# Altium footprint library TagConnect.PcbLib: 1 footprints
Each footprint in its own frame and in the unit in brackets; x right, y up, seen from the top. Pads: shape width x height; smd on the part's side, far side on the other; paste and mask are expansions set on the pad; w line width, h text height; cw(c..) or ccw(c..) is an arc to the next point about the centre after c.
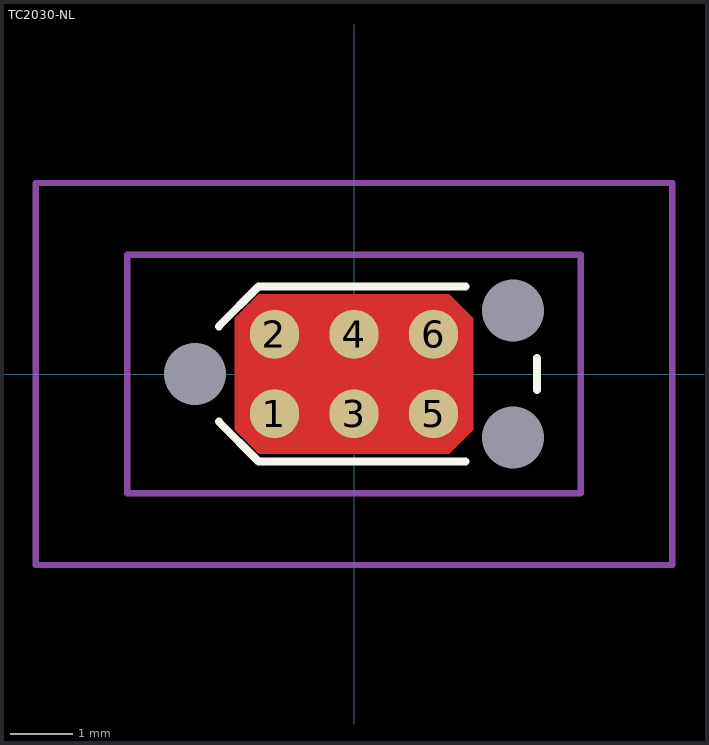
[diagram p0: the footprint, top view; thin cyan lines are the x and y axes]

## TC2030-NL [mil]
pads (9):
  round 0 hole 39 unplated mask+22: 0(-100,0) 0(100,-40) 0(100,40)
  round 31 smd paste-1000: 1(-50,-25) 2(-50,25) 3(0,-25) 4(0,25) 5(50,-25) 6(50,25)
Top Layer:
  pour cut-out: -75,-35 -60,-50 60,-50 75,-35 75,35 60,50 -60,50 -75,35
Top Overlay:
  lines w5: -85,-30 -60,-55 70,-55 ; -85,30 -60,55 70,55 ; 115,-10 115,10
Mechanical 13:
  lines w3.94: -200,-120 -200,120 200,120 200,-120 -200,-120 ; -142.5,-75 -142.5,75 142.5,75 142.5,-75 -142.5,-75
3D body: height 39.37, standoff 0, extent -100,-55 115,55